# Altium footprint library Molex_GNSS_antenna_2042830001.PcbLib: 1 footprints
Each footprint in its own frame and in the unit in brackets; x right, y up, seen from the top. Pads: shape width x height; smd on the part's side, far side on the other; paste and mask are expansions set on the pad; w line width, h text height; cw(c..) or ccw(c..) is an arc to the next point about the centre after c.
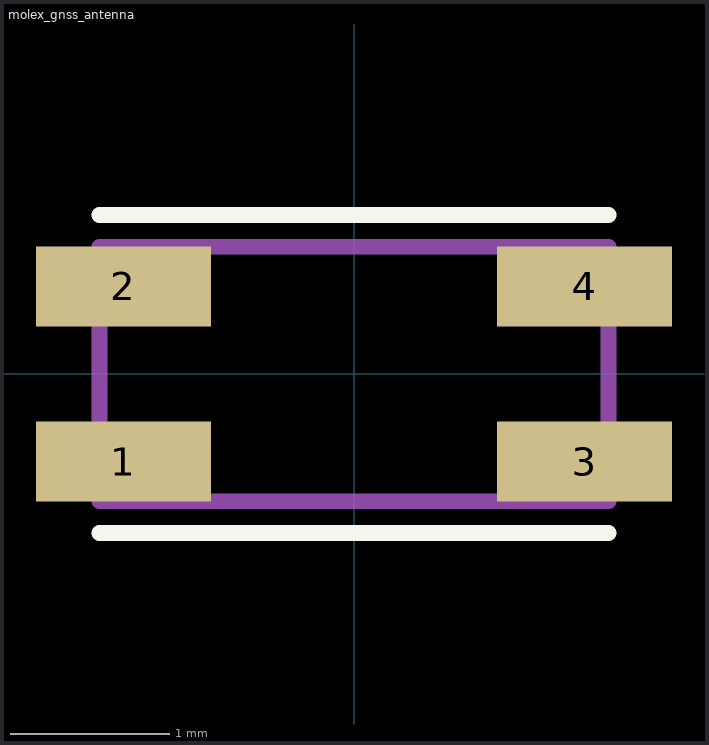
[diagram p0: the footprint, top view; thin cyan lines are the x and y axes]

## molex_gnss_antenna [mm] "204283-0001 Molex"
height 1.1
pads (4):
  rect 1.1x0.5 smd: 1(-1.45,-0.55) 2(-1.45,0.55) 3(1.45,-0.55) 4(1.45,0.55)
Top Overlay:
  lines w0.1: -1.6,-1 1.6,-1 ; -1.6,1 1.6,1
Mechanical 1:
  lines w0.1: -1.6,-0.8 -1.6,0.8 1.6,0.8 1.6,-0.8 -1.6,-0.8
3D body: height 1.11, standoff 0.01, extent -1.6,-0.8 1.6,0.8